# Altium schematic symbol library FUSE-FUSE 0679H3500-05.SchLib: 1 symbol
Pins are listed as number, name and electrical type; pins without a type are passive.

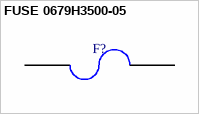
[diagram p0: symbol FUSE 0679H3500-05]

## FUSE 0679H3500-05
designator F?
Supplier 1: Arrow Electronics; Supplier Part Number 1: 0679H3500-05
pins: 1, 2